# EAGLE library part 6120XX22921_61202022921 (library Wurth_Connectors_WR-BHD)
2.54 mm Male Angled Box Header with long lever KIND PROPERTIES: Pitch 2.54 mm Gender:Male MATERIAL PROPERTIES: Insulator Material:PBT Insulator Flammability Rating UL94 V-0 Insulator Color:Black Contact Material :Copper Alloy Contact Plating :Gold Contact Type: Stamped GENERAL INFORMATION: Operating Temperature:-40 °C up to +125 °C Compliance:RoHS Working Voltage: 250 V (AC) Withstanding Voltage:500 V (AC) Contact Resistance: 20 mΩ Insulation Resistance:1000 MΩ CERTIFICATION UL Approval:E323964 PACKAGING PROPERTIES Packaging :Tray <https://www.we-online.de/katalog/media/o58851v209%20Family_long_lever_WR-BHD_6120xx22x21.jpg> Details see: https://www.we-online.de/katalog/en/em/BHD_2_54_MALE_ANGLED_BOX_HEADER_WITH_LONG_LEVER_6120XX22921 Updated by Yingchun,Shan 2019-10-31 2019 (C) Würth Elektronik
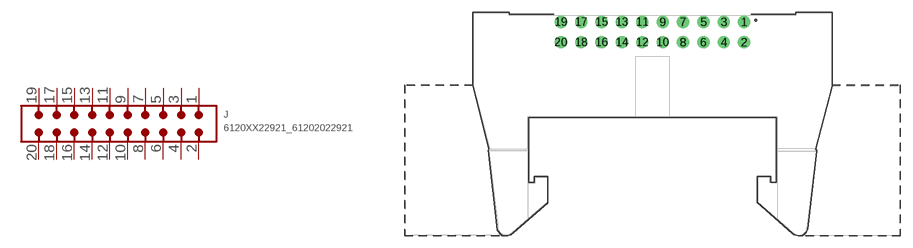
[diagram p147: symbol with the pads of 61202022921; footprint 61202022921]

Designator prefix J

## 6120XX22921_61202022921 (CONTACT-RESISTANCE: 20mOhm; DATASHEET-URL: https://www.we-online.com/redexpert/spec/61202022921?ae; GENDER: Male; IR: 3A; LENGTH: 44.9mm; MOUNT: THT; PACKAGING: Tray; PART-NUMBER: 61202022921; PINS: 20; PITCH: 2.54mm; TYPE: Angled; VALUE: 61202022921; WORKING-VOLTAGE: 250V(AC))  [61202022921]
1  1  pas
2  2  pas
3  3  pas
4  4  pas
5  5  pas
6  6  pas
7  7  pas
8  8  pas
9  9  pas
10  10  pas
11  11  pas
12  12  pas
13  13  pas
14  14  pas
15  15  pas
16  16  pas
17  17  pas
18  18  pas
19  19  pas
20  20  pas

## Footprint 61202022921 (pad centres in mm)
WR-BHD 2.54 mm Male Angled Box Header with long lever, 20 Pins
drill 1.02: 1 11.43,7.36; 2 11.43,4.82; 3 8.89,7.36; 4 8.89,4.82; 5 6.35,7.36; 6 6.35,4.82; 7 3.81,7.36; 8 3.81,4.82; 9 1.27,7.36; 10 1.27,4.82; 11 -1.27,7.36; 12 -1.27,4.82; 13 -3.81,7.36; 14 -3.81,4.82; 15 -6.35,7.36; 16 -6.35,4.82; 17 -8.89,7.36; 18 -8.89,4.82; 19 -11.43,7.36; 20 -11.43,4.82